# Altium schematic symbol library ASIC.SchLib: 17 symbols
Pins are listed as number, name and electrical type; pins without a type are passive.

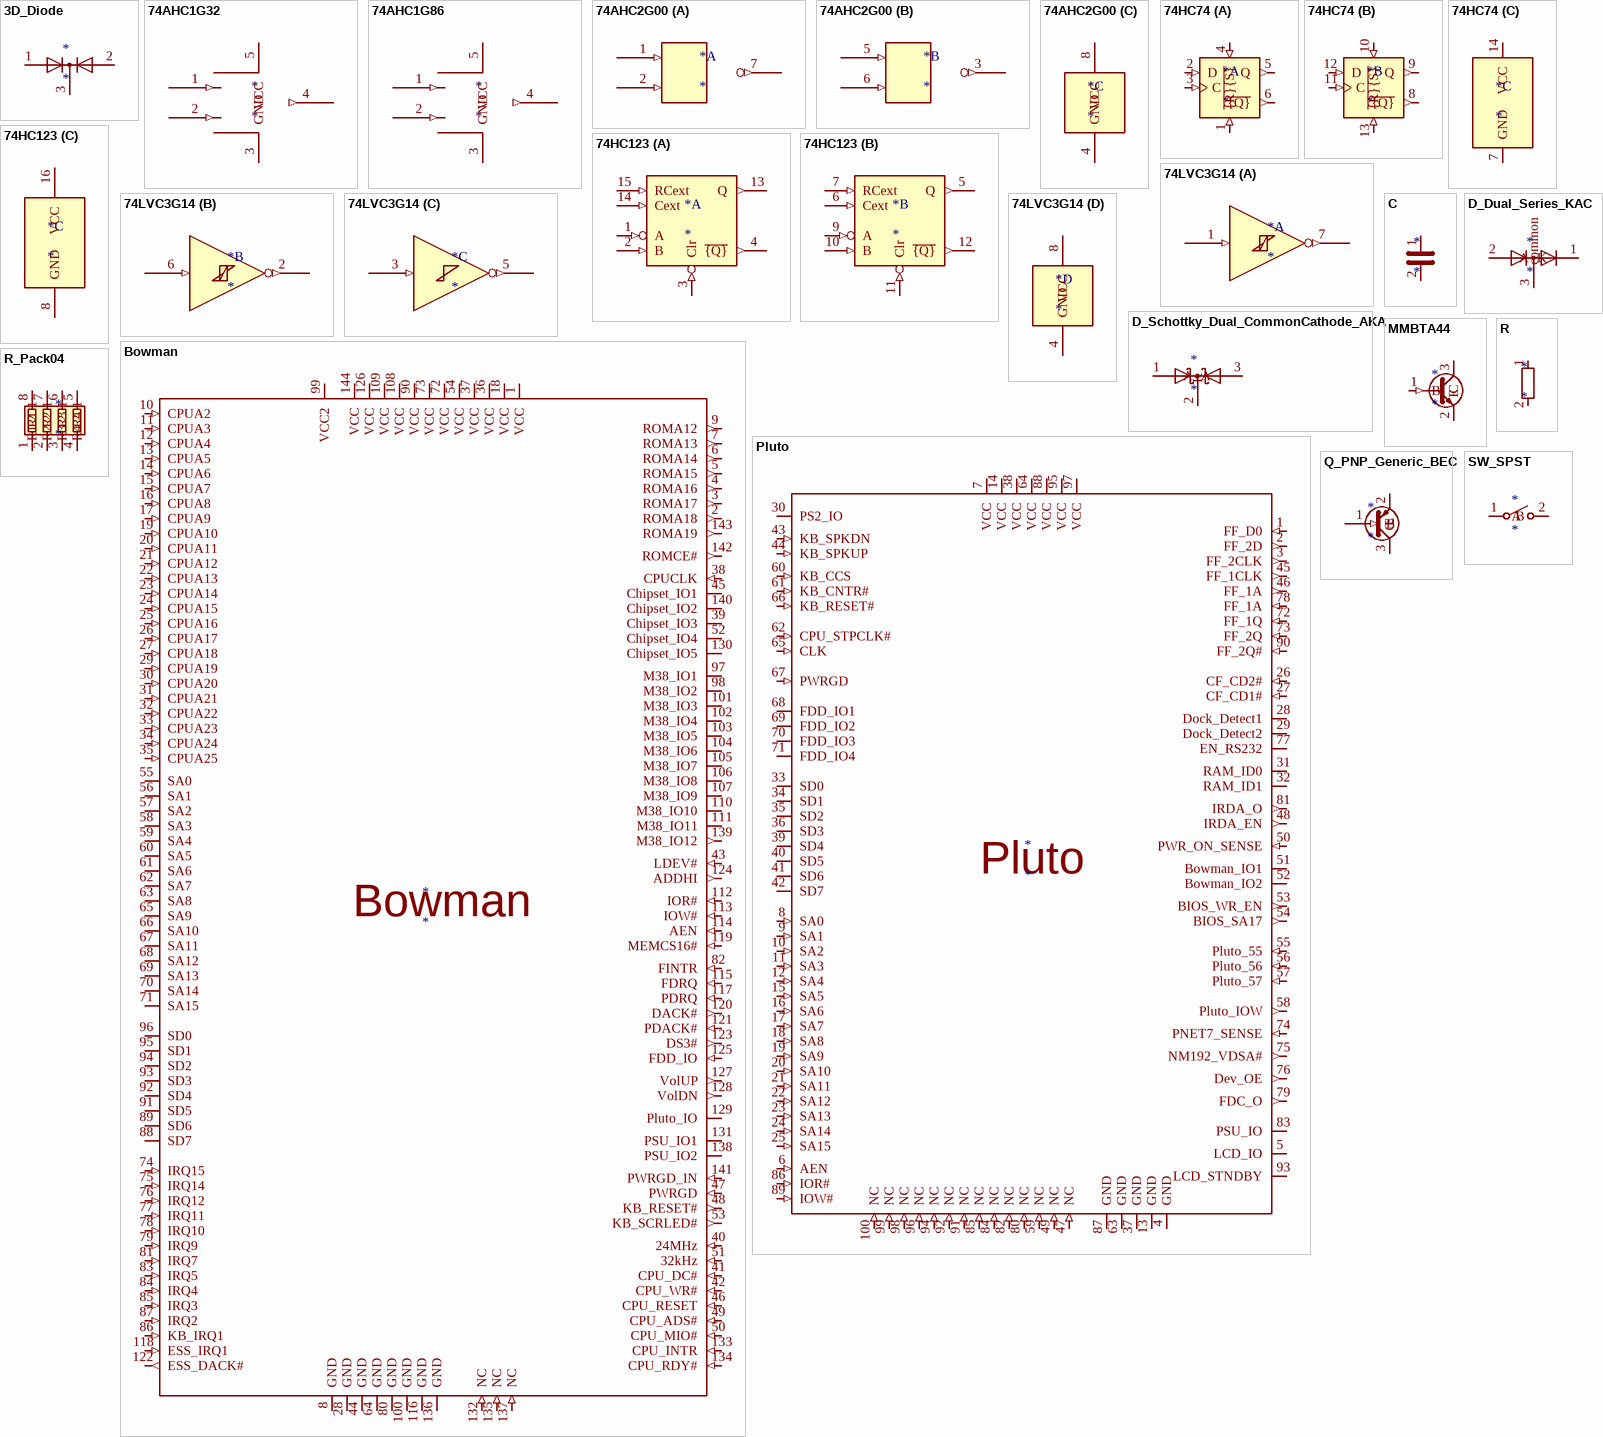
[diagram p0: symbols 3D_Diode to SW_SPST]

## 3D_Diode
designator *
pins: 1, 2, 3

## 74AHC1G32
designator *
pins: 1 (in), 2 (in), 3 GND (power), 4 (out), 5 VCC (power)

## 74AHC1G86
designator *
pins: 1 (in), 2 (in), 3 GND (power), 4 (out), 5 VCC (power)

## 74AHC2G00
designator *
part A pins: 1 (in), 2 (in), 7 (out)
part B pins: 3 (out), 5 (in), 6 (in)
part C pins: 4 GND (power), 8 VCC (power)

## 74HC74
designator *
part A pins: 1 ~{{R}} (in), 2 D (in), 3 C (in), 4 ~{{S}} (in), 5 Q (out), 6 ~{{Q}} (out)
part B pins: 8 ~{{Q}} (out), 9 Q (out), 10 ~{{S}} (in), 11 C (in), 12 D (in), 13 ~{{R}} (in)
part C pins: 7 GND (power), 14 VCC (power)

## 74HC123
designator *
part A pins: 1 A (in), 2 B (in), 3 Clr (in), 4 ~{{Q}} (out), 13 Q (out), 14 Cext (in), 15 RCext (in)
part B pins: 5 Q (out), 6 Cext (in), 7 RCext (in), 9 A (in), 10 B (in), 11 Clr (in), 12 ~{{Q}} (out)
part C pins: 8 GND (power), 16 VCC (power)

## 74LVC3G14
designator *
part A pins: 1 (in), 7 (out)
part B pins: 2 (out), 6 (in)
part C pins: 3 (in), 5 (out)
part D pins: 4 GND (power), 8 VCC (power)

## Bowman
designator *
pins: 1 VCC (power), 2 ROMA18 (out), 3 ROMA17 (out), 4 ROMA16 (out), 5 ROMA15 (out), 6 ROMA14 (out), 7 ROMA13 (out), 8 GND (power), 9 ROMA12 (out), 10 CPUA2 (in), 11 CPUA3 (in), 12 CPUA4 (in), 13 CPUA5 (in), 14 CPUA6 (in), 15 CPUA7 (in), 16 CPUA8 (in), 17 CPUA9 (in), 18 VCC (power), 19 CPUA10 (in), 20 CPUA11 (in), 21 CPUA12 (in), 22 CPUA13 (in), 23 CPUA14 (in), 24 CPUA15 (in), 25 CPUA16 (in), 26 CPUA17 (in), 27 CPUA18 (in), 28 GND (power), 29 CPUA19 (in), 30 CPUA20 (in), 31 CPUA21 (in), 32 CPUA22 (in), 33 CPUA23 (in), 34 CPUA24 (in), 35 CPUA25 (in), 36 VCC (power), 37 VCC (power), 38 CPUCLK (in), 39 Chipset_IO3 (io), 40 24MHz (in), 41 CPU_DC# (in), 42 CPU_WR# (in), 43 LDEV# (in), 44 GND (power), 45 Chipset_IO1 (io), 46 CPU_RESET (in), 47 PWRGD (in), 48 KB_RESET# (out), 49 CPU_ADS# (in), 50 CPU_MIO# (in), 51 32kHz (in), 52 Chipset_IO4 (io), 53 KB_SCRLED# (out), 54 VCC (power), 55 SA0 (io), 56 SA1 (io), 57 SA2 (io), 58 SA3 (io), 59 SA4 (io), 60 SA5 (io), 61 SA6 (io), 62 SA7 (io), 63 SA8 (io), 64 GND (power), 65 SA9 (io), 66 SA10 (io), 67 SA11 (io), 68 SA12 (io), 69 SA13 (io), 70 SA14 (io), 71 SA15 (io), 72 VCC (power), 73 VCC (power), 74 IRQ15 (in), 75 IRQ14 (in), 76 IRQ12 (in), 77 IRQ11 (in), 78 IRQ10 (in), 79 IRQ9 (in), 80 GND (power), 81 IRQ7 (in), 82 FINTR (in), 83 IRQ5 (in), 84 IRQ4 (in), 85 IRQ3 (in), 86 KB_IRQ1 (in), 87 IRQ2 (in), 88 SD7 (io), 89 SD6 (io), 90 VCC (power), 91 SD5 (io), 92 SD4 (io), 93 SD3 (io), 94 SD2 (io), 95 SD1 (io), 96 SD0 (io), 97 M38_IO1 (io), 98 M38_IO2 (io), 99 VCC2 (power), 100 GND (power), 101 M38_IO3 (io), 102 M38_IO4 (io), 103 M38_IO5 (io), 104 M38_IO6 (io), 105 M38_IO7 (io), 106 M38_IO8 (io), 107 M38_IO9 (io), 108 VCC (power), 109 VCC (power), 110 M38_IO10 (io), 111 M38_IO11 (io), 112 IOR# (in), 113 IOW# (in), 114 AEN (in), 115 FDRQ (in), 116 GND (power), 117 PDRQ (in), 118 ESS_IRQ1 (in), 119 MEMCS16# (in), 120 DACK# (out), 121 PDACK# (in), 122 ESS_DACK# (out), 123 DS3# (out), 124 ADDHI (out), 125 FDD_IO (in), 126 VCC (power), 127 VolUP (out), 128 VolDN (out), 129 Pluto_IO (io), 130 Chipset_IO5 (io), 131 PSU_IO1 (io), 132 NC (in), 133 CPU_INTR (in), 134 CPU_RDY# (in), 135 NC (in), 136 GND (power), 137 NC (in), 138 PSU_IO2 (io), 139 M38_IO12 (out), 140 Chipset_IO2 (io), 141 PWRGD_IN (in), 142 ROMCE# (out), 143 ROMA19 (out), 144 VCC (power)

## C
designator *
pins: 1, 2

## D_Dual_Series_KAC
designator *
pins: 1 K, 2 A, 3 common

## D_Schottky_Dual_CommonCathode_AKA
designator *
pins: 1 A, 2 K, 3 A

## MMBTA44
designator *
pins: 1 B (in), 2 E, 3 C

## Pluto
designator *
pins: 1 FF_D0 (in), 2 FF_2D (out), 3 FF_2CLK (out), 4 GND (power), 5 LCD_IO (io), 6 AEN (in), 7 VCC (power), 8 SA0 (in), 9 SA1 (in), 10 SA2 (in), 11 SA3 (in), 12 SA4 (in), 13 GND (power), 14 VCC (power), 15 SA5 (in), 16 SA6 (in), 17 SA7 (in), 18 SA8 (in), 19 SA9 (in), 20 SA10 (in), 21 SA11 (in), 22 SA12 (in), 23 SA13 (in), 24 SA14 (in), 25 SA15 (in), 26 CF_CD2# (in), 27 CF_CD1# (in), 28 Dock_Detect1 (io), 29 Dock_Detect2 (io), 30 PS2_IO (io), 31 RAM_ID0 (io), 32 RAM_ID1 (io), 33 SD0 (io), 34 SD1 (io), 35 SD2 (io), 36 SD3 (io), 37 GND (power), 38 VCC (power), 39 SD4 (io), 40 SD5 (io), 41 SD6 (io), 42 SD7 (io), 43 KB_SPKDN (in), 44 KB_SPKUP (in), 45 FF_1CLK (out), 46 FF_1A (out), 47 NC (in), 48 IRDA_EN (out), 49 NC (in), 50 PWR_ON_SENSE (in), 51 Bowman_IO1 (io), 52 Bowman_IO2 (io), 53 BIOS_WR_EN (out), 54 BIOS_SA17 (out), 55 Pluto_55 (in), 56 Pluto_56 (in), 57 Pluto_57 (in), 58 Pluto_IOW (out), 59 NC (in), 60 KB_CCS (in), 61 KB_CNTR# (in), 62 CPU_STPCLK# (in), 63 GND (power), 64 VCC (power), 65 CLK (in), 66 KB_RESET# (in), 67 PWRGD (in), 68 FDD_IO1 (io), 69 FDD_IO2 (io), 70 FDD_IO3 (io), 71 FDD_IO4 (io), 72 FF_1Q (in), 73 FF_2Q (in), 74 PNET7_SENSE (in), 75 NM192_VDSA# (out), 76 Dev_OE (out), 77 EN_RS232 (io), 78 FF_1A (in), 79 FDC_O (out), 80 NC (in), 81 IRDA_O (out), 82 NC (in), 83 PSU_IO (io), 84 NC (in), 85 NC (in), 86 IOR# (in), 87 GND (power), 88 VCC (power), 89 IOW# (in), 90 FF_2Q# (in), 91 NC (in), 92 NC (in), 93 LCD_STNDBY (io), 94 NC (in), 95 VCC (power), 96 NC (in), 97 VCC (power), 98 NC (in), 99 NC (in), 100 NC (in)

## Q_PNP_Generic_BEC
designator *
pins: 1 B (in), 2 E, 3 C

## R
designator *
pins: 1, 2

## R_Pack04
designator *
pins: 1 R1.1, 2 R2.1, 3 R3.1, 4 R4.1, 5 R4.2, 6 R3.2, 7 R2.2, 8 R1.2

## SW_SPST
designator *
pins: 1 A, 2 B